# Altium footprint library SelfLib.PcbLib: 55 footprints (part 4 of 4)
Each footprint in its own frame and in the unit in brackets; x right, y up, seen from the top. Pads: shape width x height; smd on the part's side, far side on the other; paste and mask are expansions set on the pad; w line width, h text height; cw(c..) or ccw(c..) is an arc to the next point about the centre after c.
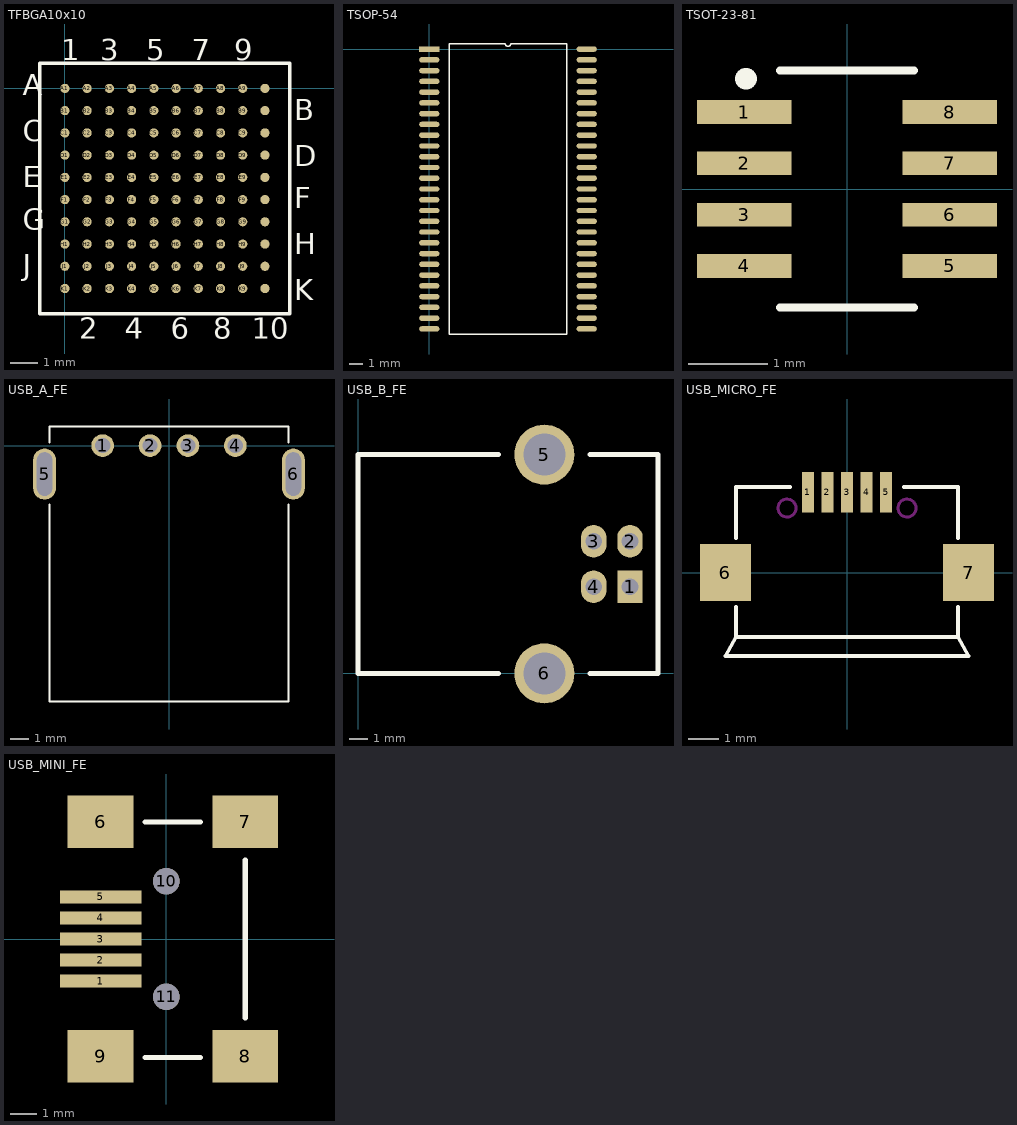
[diagram p3: the footprints below, top view; thin cyan lines are the x and y axes]

## TFBGA10x10 [mm]
height 0.7
pads (100):
  round 0.33 smd: A1(0,0) A2(0.8,0) A3(1.6,0) A4(2.4,0) A5(3.2,0) A6(4,0) A7(4.8,0) A8(5.6,0) A9(6.4,0) A10(7.2,0) B1(0,-0.8) B2(0.8,-0.8) B3(1.6,-0.8) B4(2.4,-0.8) B5(3.2,-0.8) B6(4,-0.8) B7(4.8,-0.8) B8(5.6,-0.8) B9(6.4,-0.8) B10(7.2,-0.8) C1(0,-1.6) C2(0.8,-1.6) C3(1.6,-1.6) C4(2.4,-1.6) C5(3.2,-1.6) C6(4,-1.6) C7(4.8,-1.6) C8(5.6,-1.6) C9(6.4,-1.6) C10(7.2,-1.6) D1(0,-2.4) D2(0.8,-2.4) D3(1.6,-2.4) D4(2.4,-2.4) D5(3.2,-2.4) D6(4,-2.4) D7(4.8,-2.4) D8(5.6,-2.4) D9(6.4,-2.4) D10(7.2,-2.4) E1(0,-3.2) E2(0.8,-3.2) E3(1.6,-3.2) E4(2.4,-3.2) E5(3.2,-3.2) E6(4,-3.2) E7(4.8,-3.2) E8(5.6,-3.2) E9(6.4,-3.2) E10(7.2,-3.2) F1(0,-4) F2(0.8,-4) F3(1.6,-4) F4(2.4,-4) F5(3.2,-4) F6(4,-4) F7(4.8,-4) F8(5.6,-4) F9(6.4,-4) F10(7.2,-4) G1(0,-4.8) G2(0.8,-4.8) G3(1.6,-4.8) G4(2.4,-4.8) G5(3.2,-4.8) G6(4,-4.8) G7(4.8,-4.8) G8(5.6,-4.8) G9(6.4,-4.8) G10(7.2,-4.8) H1(0,-5.6) H2(0.8,-5.6) H3(1.6,-5.6) H4(2.4,-5.6) H5(3.2,-5.6) H6(4,-5.6) H7(4.8,-5.6) H8(5.6,-5.6) H9(6.4,-5.6) H10(7.2,-5.6) J1(0,-6.4) J2(0.8,-6.4) J3(1.6,-6.4) J4(2.4,-6.4) J5(3.2,-6.4) J6(4,-6.4) J7(4.8,-6.4) J8(5.6,-6.4) J9(6.4,-6.4) J10(7.2,-6.4) K1(0,-7.2) K2(0.8,-7.2) K3(1.6,-7.2) K4(2.4,-7.2) K5(3.2,-7.2) K6(4,-7.2) K7(4.8,-7.2) K8(5.6,-7.2) K9(6.4,-7.2) K10(7.2,-7.2)
Top Overlay:
  lines w0.125: -0.9,-8.1 -0.9,0.9 8.1,0.9 8.1,-8.1 -0.9,-8.1
  text "10" at 6.731,-9.017 h0.76
  text "8" at 5.334,-9.017 h0.76
  text "6" at 3.81,-9.017 h0.76
  text "4" at 2.159,-9.017 h0.76
  text "2" at 0.508,-9.017 h0.76
  text "9" at 6.096,1.016 h0.76
  text "7" at 4.572,1.016 h0.76
  text "5" at 2.921,1.016 h0.76
  text "3" at 1.27,1.016 h0.76
  text "1" at -0.127,1.016 h0.76
  text "K" at 8.255,-7.62 h0.76
  text "H" at 8.255,-5.969 h0.76
  text "F" at 8.255,-4.318 h0.76
  text "D" at 8.255,-2.794 h0.76
  text "B" at 8.255,-1.143 h0.76
  text "J" at -1.524,-6.731 h0.76
  text "G" at -1.524,-5.08 h0.76
  text "E" at -1.524,-3.556 h0.76
  text "C" at -1.524,-1.905 h0.76
  text "A" at -1.524,-0.254 h0.76

## TSOP-54 [mm]
pads (54):
  rect 1.5x0.4 smd: 1(0,0)
  oval 1.5x0.4 smd: 2(0,-0.8) 3(0,-1.6) 4(0,-2.4) 5(0,-3.2) 6(0,-4) 7(0,-4.8) 8(0,-5.6) 9(0,-6.4) 10(0,-7.2) 11(0,-8) 12(0,-8.8) 13(0,-9.6) 14(0,-10.4) 15(0,-11.2) 16(0,-12) 17(0,-12.8) 18(0,-13.6) 19(0,-14.4) 20(0,-15.2) 21(0,-16) 22(0,-16.8) 23(0,-17.6) 24(0,-18.4) 25(0,-19.2) 26(0,-20) 27(0,-20.8) 28(11.7,-20.8) 29(11.7,-20) 30(11.7,-19.2) 31(11.7,-18.4) 32(11.7,-17.6) 33(11.7,-16.8) 34(11.7,-16) 35(11.7,-15.2) 36(11.7,-14.4) 37(11.7,-13.6) 38(11.7,-12.8) 39(11.7,-12) 40(11.7,-11.2) 41(11.7,-10.4) 42(11.7,-9.6) 43(11.7,-8.8) 44(11.7,-8) 45(11.7,-7.2) 46(11.7,-6.4) 47(11.7,-5.6) 48(11.7,-4.8) 49(11.7,-4) 50(11.7,-3.2) 51(11.7,-2.4) 52(11.7,-1.6) 53(11.7,-0.8) 54(11.7,0)
Top Overlay:
  lines w0.1: 1.485,-21.2 1.485,0.4 5.65,0.4 ccw(c5.85,0.4) 6.05,0.4 10.215,0.4 10.215,-21.2 1.485,-21.2

## TSOT-23-81 [mm]
pads (8):
  rect 1.2x0.3 smd: 1(-1.3,0.975) 2(-1.3,0.325) 3(-1.3,-0.325) 4(-1.3,-0.975) 5(1.3,-0.975) 6(1.3,-0.325) 7(1.3,0.325) 8(1.3,0.975)
Top Overlay:
  circle w0.254: c-1.28,1.397 r0.01
  lines w0.1: -0.85,-1.5 0.85,-1.5 ; -0.85,1.5 0.85,1.5

## USB_A_FE [mm] "USB Female A Type Socket"
height 4
pads (6):
  round 1.2 hole 0.8: 1(-3.5,0) 2(-1,0) 3(1,0) 4(3.5,0)
  oval 1.2x2.7 hole 0.8 slot 2.3 at 90 deg: 5(-6.57,-1.5) 6(6.57,-1.5)
Top Overlay:
  lines w0.1: -6.3,-3.1 -6.3,-13.5 6.3,-13.5 6.3,-3.1 ; -6.3,0.15 -6.3,1 6.3,1 6.3,0.15

## USB_B_FE [mm] "USB Female B Type Socket"
height 11
pads (6):
  rect 1.4x1.8 hole 0.92: 1(14.96,4.77)
  oval 1.4x1.8 hole 0.92: 2(14.96,7.27) 3(12.96,7.27) 4(12.96,4.77)
  round 3.3 hole 2.3: 5(10.25,12.04) 6(10.25,0)
Top Overlay:
  lines w0.254: 7.75,0 0,0 0,12.04 7.75,12.04 ; 12.75,0 16.5,0 16.5,12.04 12.75,12.04

## USB_MICRO_FE [mm]
height 3
pads (7):
  rect 0.4x1.35 smd: 1(-1.3,2.675) 2(-0.65,2.675) 3(0,2.675) 4(0.65,2.675) 5(1.3,2.675)
  rect 1.7x1.9 smd: 6(-4.05,0) 7(4.05,0)
Top Overlay:
  lines w0.125: -3.7,-1.15 -3.7,-2.15 ; -3.7,1.15 -3.7,2.85 -1.9,2.85 ; 1.9,2.85 3.7,2.85 3.7,1.15 ; 3.7,-1.15 3.7,-2.15 ; -3.7,-2.15 -4.05,-2.78 4.05,-2.78 3.7,-2.15 ; -3.7,-2.15 3.7,-2.15
Keep-Out Layer:
  circle w0.1: c-2,2.15 r0.3
  circle w0.1: c2,2.15 r0.3

## USB_MINI_FE [mm]
height 3
pads (11):
  rect 3.1x0.5 smd: 1(-2.5,-1.6) 2(-2.5,-0.8) 3(-2.5,0) 4(-2.5,0.8) 5(-2.5,1.6)
  rect 2.5x2 smd: 6(-2.5,4.45) 7(3,4.45) 8(3,-4.45) 9(-2.5,-4.45)
  round 1 hole 1 unplated: 10(0,2.2) 11(0,-2.2)
Top Overlay:
  lines w0.2: -0.8,-4.5 1.3,-4.5 ; -0.8,4.45 1.3,4.45 ; 3,-3 3,3